# EAGLE library part MC14053BCPG (library on-semiconductor-01)
Multiplexers/Demultiplexers
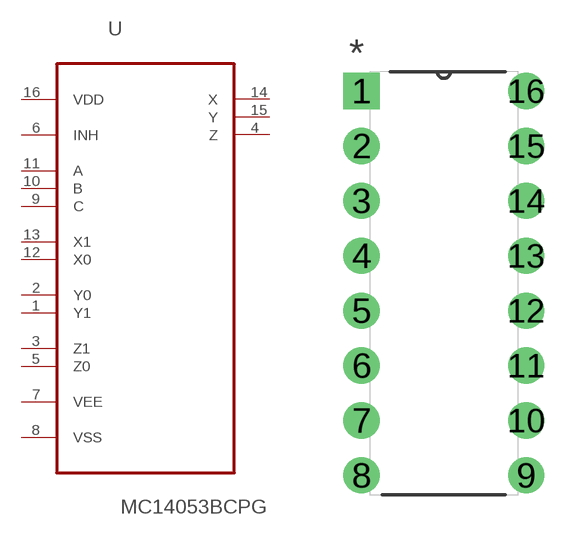
[diagram p244: symbol with the pads of DIP254P762X444-16; footprint DIP254P762X444-16]

Designator prefix U

## MC14053BCPG (MPN: MC14053BCPG; OC_FARNELL: 9664696; OC_NEWARK: 45J1063; PACKAGE: PDIP-16; SUPPLIER: On semiconductors)  [DIP254P762X444-16]
1  Y1
2  Y0
3  Z1
4  Z
5  Z0
6  INH  in
7  VEE  pwr
8  VSS  pwr
9  C  in
10  B  in
11  A  in
12  X0
13  X1
14  X
15  Y
16  VDD  pwr

## Footprint DIP254P762X444-16 (pad centres in mm)
drill 1.118 square: 1 -7.62,17.78
drill 1.118: 2 -7.62,15.24; 3 -7.62,12.7; 4 -7.62,10.16; 5 -7.62,7.62; 6 -7.62,5.08; 7 -7.62,2.54; 8 -7.62,0; 9 0,0; 10 0,2.54; 11 0,5.08; 12 0,7.62; 13 0,10.16; 14 0,12.7; 15 0,15.24; 16 0,17.78